# EAGLE library part ENC_PEC16 (library wheat)
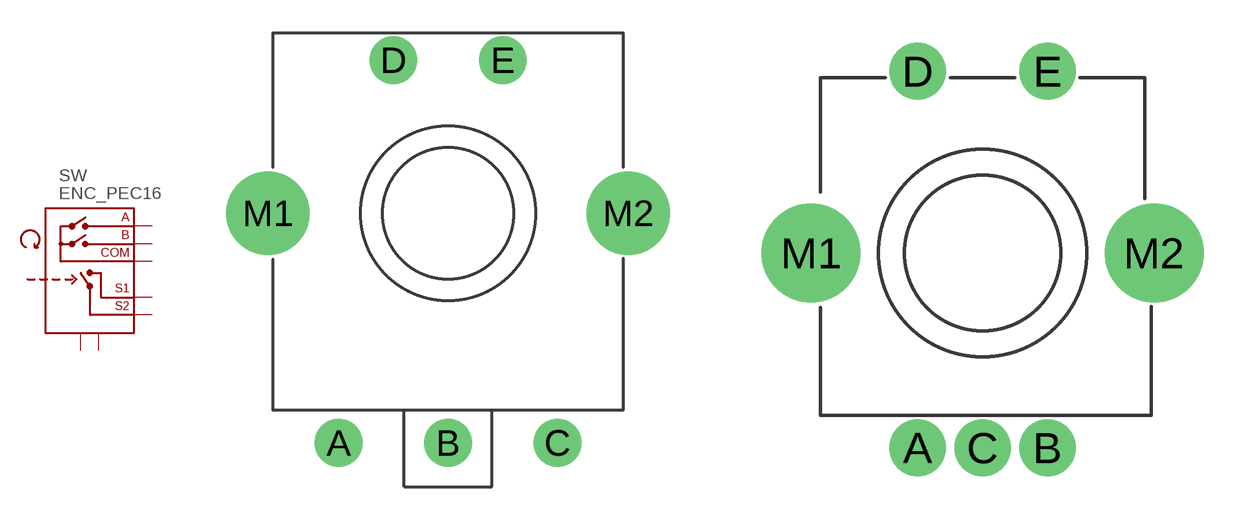
[diagram p183: symbol with the pads of ENC_PEC16; footprints ENC_PEC16, ENC_PEC12]

Designator prefix SW

## ENC_PEC16  [ENC_PEC16]
A  A  pas
B  B  pas
C  COM  pas
D  S1  pas
E  S2  pas
M1  M1  pas
M2  M2  pas

## ENC_PEC16_12  [ENC_PEC12]
Pads as for ENC_PEC16

## Footprint ENC_PEC16 (pad centres in mm)
drill 1.2 pad 2.184: A -5,-10.5; B 0,-10.5; C 5,-10.5; D -2.5,7; E 2.5,7
drill 2.3 pad 3.81: M1 -8.23,0; M2 8.23,0

## Footprint ENC_PEC12 (pad centres in mm)
drill 1.2 pad 2.184: A -2.5,-7.5; B 2.5,-7.5; C 0,-7.5; D -2.5,7; E 2.5,7
drill 2.3 pad 3.81: M1 -6.6,0; M2 6.6,0